# EAGLE library part TXB0101 (library aq_pcb_v2)
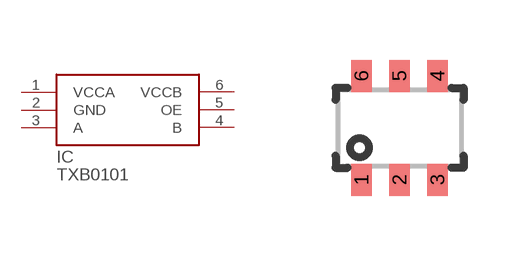
[diagram p8: symbol with the pads of SOT-23-6; footprint SOT-23-6]

Designator prefix IC

## TXB0101SOT-23-6  [SOT-23-6]
1  VCCA  pwr
2  GND  pwr
3  A
4  B
5  OE  in
6  VCCB  pwr

## Footprint SOT-23-6 (pad centres in mm)
smd 0.51 x 0.8: 1 -0.95,-1.3; 2 0,-1.3; 3 0.95,-1.3; 4 0.95,1.3; 5 0,1.3; 6 -0.95,1.3